# Altium schematic symbol library Voice.SCHLIB: 56 symbols
Pins are listed as number, name and electrical type; pins without a type are passive.

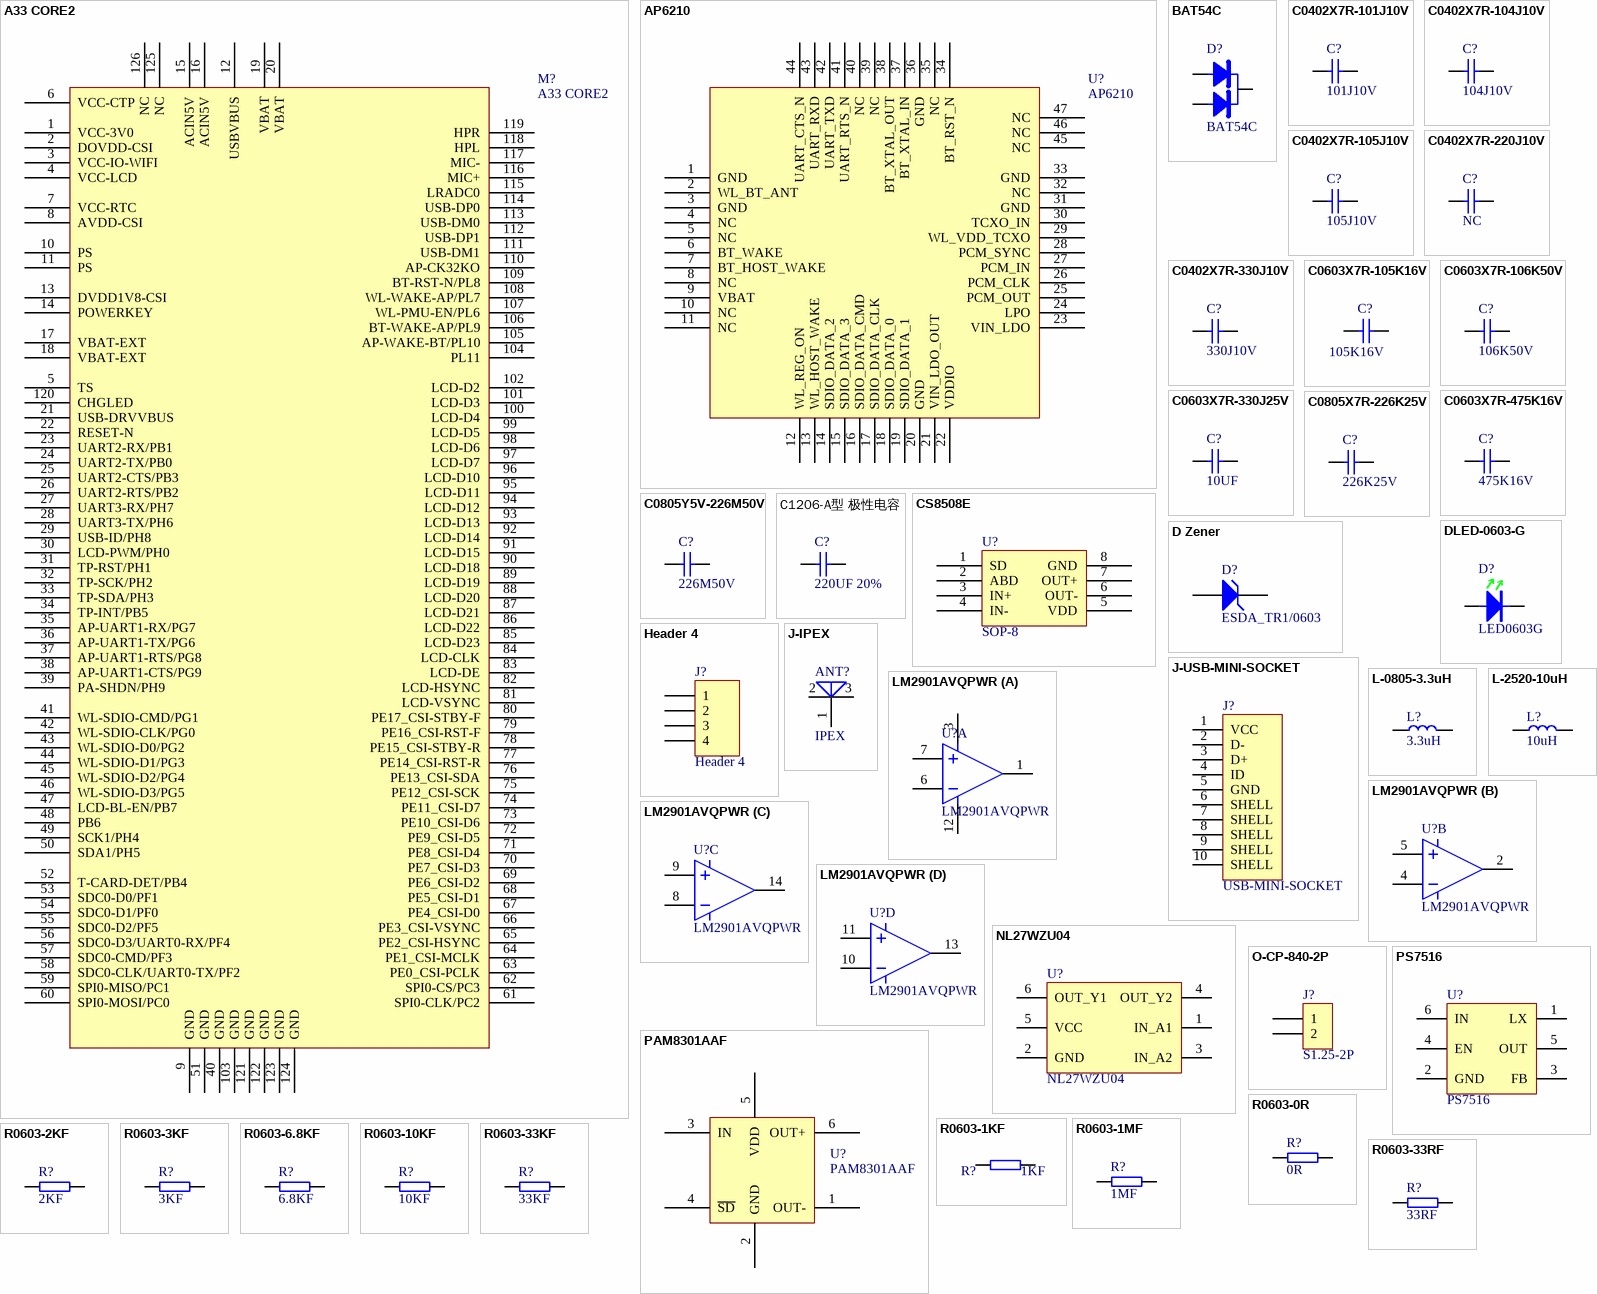
[diagram p0: symbols A33 CORE2 to R0603-33RF]

## A33 CORE2
designator M?
footprint A33-CORE2
pins: 1 VCC-3V0, 2 DOVDD-CSI, 3 VCC-IO-WIFI, 4 VCC-LCD, 5 TS, 6 VCC-CTP, 7 VCC-RTC, 8 AVDD-CSI, 9 GND, 10 PS, 11 PS, 12 USBVBUS, 13 DVDD1V8-CSI, 14 POWERKEY, 15 ACIN5V, 16 ACIN5V, 17 VBAT-EXT, 18 VBAT-EXT, 19 VBAT, 20 VBAT, 21 USB-DRVVBUS, 22 RESET-N, 23 UART2-RX/PB1, 24 UART2-TX/PB0, 25 UART2-CTS/PB3, 26 UART2-RTS/PB2, 27 UART3-RX/PH7, 28 UART3-TX/PH6, 29 USB-ID/PH8, 30 LCD-PWM/PH0, 31 TP-RST/PH1, 32 TP-SCK/PH2, 33 TP-SDA/PH3, 34 TP-INT/PB5, 35 AP-UART1-RX/PG7, 36 AP-UART1-TX/PG6, 37 AP-UART1-RTS/PG8, 38 AP-UART1-CTS/PG9, 39 PA-SHDN/PH9, 40 GND, 41 WL-SDIO-CMD/PG1, 42 WL-SDIO-CLK/PG0, 43 WL-SDIO-D0/PG2, 44 WL-SDIO-D1/PG3, 45 WL-SDIO-D2/PG4, 46 WL-SDIO-D3/PG5, 47 LCD-BL-EN/PB7, 48 PB6, 49 SCK1/PH4, 50 SDA1/PH5, 51 GND, 52 T-CARD-DET/PB4, 53 SDC0-D0/PF1, 54 SDC0-D1/PF0, 55 SDC0-D2/PF5, 56 SDC0-D3/UART0-RX/PF4, 57 SDC0-CMD/PF3, 58 SDC0-CLK/UART0-TX/PF2, 59 SPI0-MISO/PC1, 60 SPI0-MOSI/PC0, 61 SPI0-CLK/PC2, 62 SPI0-CS/PC3, 63 PE0_CSI-PCLK, 64 PE1_CSI-MCLK, 65 PE2_CSI-HSYNC, 66 PE3_CSI-VSYNC, 67 PE4_CSI-D0, 68 PE5_CSI-D1, 69 PE6_CSI-D2, 70 PE7_CSI-D3, 71 PE8_CSI-D4, 72 PE9_CSI-D5, 73 PE10_CSI-D6, 74 PE11_CSI-D7, 75 PE12_CSI-SCK, 76 PE13_CSI-SDA, 77 PE14_CSI-RST-R, 78 PE15_CSI-STBY-R, 79 PE16_CSI-RST-F, 80 PE17_CSI-STBY-F, 81 LCD-VSYNC, 82 LCD-HSYNC, 83 LCD-DE, 84 LCD-CLK, 85 LCD-D23, 86 LCD-D22, 87 LCD-D21, 88 LCD-D20, 89 LCD-D19, 90 LCD-D18, 91 LCD-D15, 92 LCD-D14, 93 LCD-D13, 94 LCD-D12, 95 LCD-D11, 96 LCD-D10, 97 LCD-D7, 98 LCD-D6, 99 LCD-D5, 100 LCD-D4, 101 LCD-D3, 102 LCD-D2, 103 GND, 104 PL11, 105 AP-WAKE-BT/PL10, 106 BT-WAKE-AP/PL9, 107 WL-PMU-EN/PL6, 108 WL-WAKE-AP/PL7, 109 BT-RST-N/PL8, 110 AP-CK32KO, 111 USB-DM1, 112 USB-DP1, 113 USB-DM0, 114 USB-DP0, 115 LRADC0, 116 MIC+, 117 MIC-, 118 HPL, 119 HPR, 120 CHGLED, 121 GND, 122 GND, 123 GND, 124 GND, 125 NC, 126 NC

## AP6210
designator U?
footprint AP6210
pins: 1 GND, 2 WL_BT_ANT, 3 GND, 4 NC, 5 NC, 6 BT_WAKE, 7 BT_HOST_WAKE, 8 NC, 9 VBAT, 10 NC, 11 NC, 12 WL_REG_ON, 13 WL_HOST_WAKE, 14 SDIO_DATA_2, 15 SDIO_DATA_3, 16 SDIO_DATA_CMD, 17 SDIO_DATA_CLK, 18 SDIO_DATA_0, 19 SDIO_DATA_1, 20 GND, 21 VIN_LDO_OUT, 22 VDDIO, 23 VIN_LDO, 24 LPO, 25 PCM_OUT, 26 PCM_CLK, 27 PCM_IN, 28 PCM_SYNC, 29 WL_VDD_TCXO, 30 TCXO_IN, 31 GND, 32 NC, 33 GND, 34 BT_RST_N, 35 NC, 36 GND, 37 BT_XTAL_IN, 38 BT_XTAL_OUT, 39 NC, 40 NC, 41 UART_RTS_N, 42 UART_TXD, 43 UART_RXD, 44 UART_CTS_N, 45 NC, 46 NC, 47 NC

## BAT54C
designator D?
贴片二极管-肖特基; 规格型号: BAT54C-0.2A30V; 生产商: *; 供应商: *; 备注: *
footprint U-SOT-23-3
pins: 1, 2, 3

## C0402X7R-101J10V
designator C?, comment 101J10V
贴片电容-陶瓷; 规格型号: 100pF±5%_10V_X7R_C0402; 生产商: 风华 三星; 供应商: *; 备注: *
footprint C0402
pins: 1, 2

## C0402X7R-104J10V
designator C?, comment 104J10V
贴片电容-陶瓷; 规格型号: 100nF±5%_10V_X7R_C0402; 生产商: 风华 三星; 供应商: *; 备注: *
footprint C0402
pins: 1, 2

## C0402X7R-105J10V
designator C?, comment 105J10V
贴片电容-陶瓷; 规格型号: 1uF±J%_10V_X7R_C0402; 生产商: 风华 三星; 供应商: *; 备注: *
footprint C0402
pins: 1, 2

## C0402X7R-220J10V
designator C?, comment NC
贴片电容-陶瓷; 规格型号: 22pF±5%_10V_X7R_C0402; 生产商: 风华 三星; 供应商: *; 备注: *
footprint C0402
pins: 1, 2

## C0402X7R-330J10V
designator C?, comment 330J10V
贴片电容-陶瓷; 规格型号: 33pF±5%_10V_X7R_C0402; 生产商: 风华 三星; 供应商: *; 备注: *
footprint C0402
pins: 1, 2

## C0603X7R-105K16V
designator C?, comment 105K16V
贴片电容-陶瓷; 规格型号: 1uF±10%_16V_X7R_C0603; 生产商: 风华 三星; 供应商: *; 备注: *
footprint C0603
pins: 1, 2

## C0603X7R-106K50V
designator C?, comment 106K50V
贴片电容-陶瓷; 规格型号: 10uF±10%_50V_X7R_C0603; 生产商: 风华 三星; 供应商: *; 备注: *
footprint C0603
pins: 1, 2

## C0603X7R-330J25V
designator C?, comment 10UF
贴片电容-陶瓷; 规格型号: 33pF±5%_25V_X7R_C0603; 生产商: 风华 三星; 供应商: *; 备注: *
footprint C0603
pins: 1, 2

## C0603X7R-475K16V
designator C?, comment 475K16V
贴片电容-陶瓷; 规格型号: 4.7uF±10%_16V_X7R_C0603; 生产商: 风华 三星; 供应商: *; 备注: *
footprint C0603
pins: 1, 2

## C0805X7R-226K25V
designator C?, comment 226K25V
贴片电容-陶瓷; 规格型号: 22uF±10%_25V_X7R_C0805; 生产商: 风华 三星; 供应商: *; 备注: *
footprint C0805
pins: 1, 2

## C0805Y5V-226M50V
designator C?, comment 226M50V
贴片电容-陶瓷; 规格型号: 22uF±20%_50V_Y5V_C0805; 生产商: 风华 三星; 供应商: *; 备注: *
footprint C0805
pins: 1, 2

## C1206-A型 极性电容
designator C?, comment 220UF 20%
C 1206钽电容 --220UF 10V 3216 A型 有极性电容 3.2mm X 1.6mm; 参数: C 1206钽电容 --220UF 20% 10V 3216 A型 有极性 白色为正 电容 3.2mm X 1.6mm
footprint C1206
pins: 1, 2

## CS8508E
designator U?, comment SOP-8
footprint SOP-8 (VOICE)
pins: 1 SD, 2 ABD, 3 IN+, 4 IN-, 5 VDD, 6 OUT-, 7 OUT+, 8 GND

## D Zener
designator D?, comment ESDA_TR1/0603
Zener Diode; Published: *; LatestRevisionDate: *; LatestRevisionNote: *; PackageReference: *; Publisher: *
footprint HS_0603D
pins: 1 A, 2 K
2 alternate drawings of the same symbol

## DLED-0603-G
designator D?, comment LED0603G
贴片二极管-LED; 规格型号: 0603-GREEN; 货品编码: 无样品无编码; 生产商: *; 供应商: *; 备注: *
footprint D-LED0603G
pins: 1, 2

## Header 4
designator J?
Header, 4-Pin; LatestRevisionDate: 17-Jul-2002; LatestRevisionNote: Re-released for DXP Platform.; Publisher: Altium Limited
footprint HDR1X4 (Connector; Header; 4 Position)
signal-integrity model Connector
footprint USB-A1
footprint USB-AD
pins: 1, 2, 3, 4

## J-IPEX
designator ANT?, comment IPEX
天线接口IPEX
footprint J-IPEX
pins: 1 W, 2, 3

## J-USB-MINI-SOCKET
designator J?, comment USB-MINI-SOCKET
USB-A卧式插座; 供应商: *; 备注: *
footprint MICRO-USB - 5.9
pins: 1 VCC, 2 D-, 3 D+, 4 ID, 5 GND, 6 SHELL, 7 SHELL, 8 SHELL, 9 SHELL, 10 SHELL

## L-0805-3.3uH
designator L?, comment 3.3uH
贴片电感-层叠; 规格型号: L0805-3.3uH; 生产商: *; 供应商: *; 备注: *
footprint L0805
pins: 1, 2

## L-2520-10uH
designator L?, comment 10uH
贴片电感-层叠; 叠层电感: 2.5*2*1.8
footprint L-2520 (10uH 叠层电感，700mA)
pins: 1, 2

## LM2901AVQPWR
designator U?
生产商: *; 供应商: *; 备注: *; 规格型号: *
footprint U-TSSOP14
part A pins: 1 1OUT, 3 VCC, 6 1IN-, 7 1IN+, 12 GND
part B pins: 2 2OUT, 4 2IN-, 5 2IN+
part C pins: 8 3IN-, 9 3IN+, 14 3OUT
part D pins: 10 4IN-, 11 4IN+, 13 4OUT

## NL27WZU04
designator U?
footprint U-TSOP-6
pins: 1 IN_A1, 2 GND, 3 IN_A2, 4 OUT_Y2, 5 VCC, 6 OUT_Y1

## O-CP-840-2P
designator J?, comment S1.25-2P
定制铜排; 规格型号: CP-840-2P; 货品编码: 样品无编码; 供应商: *; 备注: *
footprint S1.25-2P
footprint CP-840-2P/S1 (COPPER840-1S)
pins: 1, 2

## PAM8301AAF
designator U?
footprint U-TSOT26
pins: 1 OUT-, 2 GND, 3 IN, 4 ~{SD}, 5 VDD, 6 OUT+

## PS7516
designator U?
footprint U-SOT-23-6
pins: 1 LX, 2 GND, 3 FB, 4 EN, 5 OUT, 6 IN

## R0603-0R
designator R?, comment 0R
贴片电阻-通用; 生产商: 厚声 国巨; 规格型号: 0R_1/10W_±200ppm_R0603; 货品编码: 无样品无编码; 备注: *; 供应商: *
footprint R0603
pins: 1, 2

## R0603-1KF
designator R?, comment 1KF
贴片电阻-通用; 生产商: 厚声 国巨; 规格型号: 1K±1%_1/10W_±200ppm_R0603; 货品编码: 无样品无编码; 备注: *; 供应商: *
footprint R0603
pins: 1, 2

## R0603-1MF
designator R?, comment 1MF
贴片电阻-通用; value: 1MF 0603贴片电阻-通用
footprint R0603
pins: 1, 2

## R0603-2KF
designator R?, comment 2KF
贴片电阻-通用; 生产商: 厚声 国巨; 规格型号: 2K±1%_1/10W_±200ppm_R0603; 备注: *; 供应商: *
footprint R0603
pins: 1, 2

## R0603-3KF
designator R?, comment 3KF
贴片电阻-通用; 生产商: 厚声 国巨; 规格型号: 3K±1%_1/10W_±200ppm_R0603; 货品编码: 无样品无编码; 备注: *; 供应商: *
footprint R0603
pins: 1, 2

## R0603-6.8KF
designator R?, comment 6.8KF
贴片电阻-通用; 生产商: 厚声 国巨; 规格型号: 6.8K±1%_1/10W_±200ppm_R0603; 货品编码: 无样品无编码; 备注: *; 供应商: *
footprint R0603
pins: 1, 2

## R0603-10KF
designator R?, comment 10KF
贴片电阻-通用; 生产商: 厚声 国巨; 规格型号: 10K±1%_1/10W_±200ppm_R0603; 备注: *; 供应商: *
footprint R0603
pins: 1, 2

## R0603-33KF
designator R?, comment 33KF
贴片电阻-通用; 生产商: 厚声 国巨; 规格型号: 33K±1%_1/10W_±200ppm_R0603; 备注: *; 供应商: *
footprint R0603
pins: 1, 2

## R0603-33RF
designator R?, comment 33RF
贴片电阻-通用; 生产商: 厚声 国巨; 规格型号: 33R±1%_1/10W_±200ppm_R0603; 货品编码: 无样品无编码; 备注: *; 供应商: *
footprint R0603
pins: 1, 2

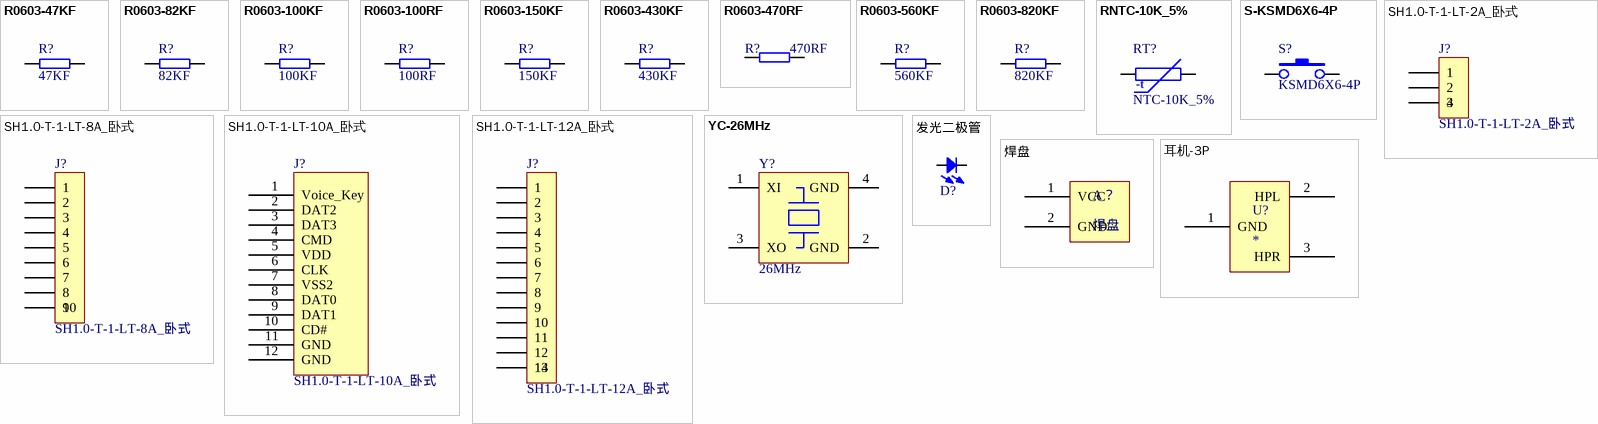
[diagram p1: symbols R0603-47KF to 耳机-3P]

## R0603-47KF
designator R?, comment 47KF
贴片电阻-通用; 生产商: 厚声 国巨; 规格型号: 47K±1%_1/10W_±200ppm_R0603; 货品编码: 无样品无编码; 备注: *; 供应商: *
footprint R0603
pins: 1, 2

## R0603-82KF
designator R?, comment 82KF
贴片电阻-通用; 生产商: 厚声 国巨; 规格型号: 82K±1%_1/10W_±200ppm_R0603; 备注: *; 供应商: *
footprint R0603
pins: 1, 2

## R0603-100KF
designator R?, comment 100KF
贴片电阻-通用; 生产商: 厚声 国巨; 规格型号: 100K±1%_1/10W_±200ppm_R0603; 货品编码: 无样品无编码; 备注: *; 供应商: *
footprint R0603
pins: 1, 2

## R0603-100RF
designator R?, comment 100RF
贴片电阻-通用; 生产商: 厚声 国巨; 规格型号: 100R±1%_1/10W_±200ppm_R0603; 备注: *; 供应商: *
footprint R0603
pins: 1, 2

## R0603-150KF
designator R?, comment 150KF
贴片电阻-通用; 生产商: 厚声 国巨; 规格型号: 150K±1%_1/10W_±200ppm_R0603; 货品编码: 无样品无编码; 备注: *; 供应商: *
footprint R0603
pins: 1, 2

## R0603-430KF
designator R?, comment 430KF
贴片电阻-通用; 生产商: 厚声 国巨; 规格型号: 430K±1%_1/10W_±200ppm_R0603; 备注: *; 供应商: *
footprint R0603
pins: 1, 2

## R0603-470RF
designator R?, comment 470RF
贴片电阻-通用; 生产商: 厚声 国巨; 规格型号: 470R±1%_1/10W_±200ppm_R0603; 货品编码: 无样品无编码; 备注: *; 供应商: *
footprint R0603
pins: 1, 2

## R0603-560KF
designator R?, comment 560KF
贴片电阻-通用; 生产商: 厚声 国巨; 规格型号: 560K±1%_1/10W_±200ppm_R0603; 备注: *; 供应商: *
footprint R0603
pins: 1, 2

## R0603-820KF
designator R?, comment 820KF
贴片电阻-通用; 生产商: 厚声 国巨; 规格型号: 820K±1%_1/10W_±200ppm_R0603; 货品编码: 无样品无编码; 备注: *; 供应商: *
footprint R0603
pins: 1, 2

## RNTC-10K_5%
designator RT?, comment NTC-10K_5%
插件电阻-热敏; 规格型号: 10K±5%_MF52A_NTC-10K; 货品编码: 312077; 供应商: *; 备注: *
footprint R-NTC-10K (Footprint not found)
pins: 1, 2
text: -t

## S-KSMD6X6-4P
designator S?, comment KSMD6X6-4P
轻触按键; 货品编码: 232013; 规格型号: 6x6 SMD贴片按键; 备注: *; 供应商: *; 生产商: *
footprint SW2-6*6H (2脚按键-6*6 横按)
pins: 1, 2

## SH1.0-T-1-LT-2A_卧式
designator J?
footprint J-SH1.0-T-1-LT-2A_卧式
pins: 1, 2, 3, 4

## SH1.0-T-1-LT-8A_卧式
designator J?
SH1.0-T-1-LT-6A_卧式
footprint J-SH1.0-T-1-LT-8A_卧式
pins: 1, 2, 3, 4, 5, 6, 7, 8, 9, 10

## SH1.0-T-1-LT-10A_卧式
designator J?
footprint J-SH1.0-T-1-LT-10A_卧式
pins: 1 Voice_Key, 2 DAT2 (power), 3 DAT3 (power), 4 CMD (power), 5 VDD, 6 CLK, 7 VSS2, 8 DAT0, 9 DAT1, 10 CD#, 11 GND, 12 GND

## SH1.0-T-1-LT-12A_卧式
designator J?
footprint J-SH1.0-T-1-LT-12A_卧式
pins: 1, 2, 3, 4, 5, 6, 7, 8, 9, 10, 11, 12, 13, 14

## YC-26MHz
designator Y?, comment 26MHz
晶振-贴片无源; 规格型号: 26MHz_贴片晶振3225; 生产商: *; 供应商: *; 备注: *
footprint Y-CPX-32GA-4P
pins: 1 XI, 2 GND, 3 XO, 4 GND
2 alternate drawings of the same symbol

## 发光二极管
designator D?  (value not drawn)
footprint LEDΦ5-H12 (LEDΦ5-12mm隔空90度插件)
footprint LED_DIP
footprint 0805D (Footprint not found)
pins: A, K

## 焊盘
designator A？
footprint 焊盘
pins: 1 VCC (power), 2 GND (power)

## 耳机-3P
designator U?
footprint 耳机 (voice-3P)
pins: 1 GND (power), 2 HPL (power), 3 HPR (power)